# EAGLE library part 649012221732 (library Wurth_Elektronik_Electromechanic_Wire_to_Board_Connectors_rev15c)
WR-MPC4 4.20mm Male Dual Row Vertical Header with Mounting Pegs, 12 Pins=>Code : Con_WTB_MPC4_2_PCB_649012221732 <http://katalog.we-online.de/media/thumbs2/eican/thb_Con_WTB_MPC4_2_PCB_6490xx221732_pf2.jpg> Details see: http://katalog.we-online.de/en/em/649_0xx_221_732 Created 2014-06-06, Karrer Zheng 2014 (C) Würth Elektronik
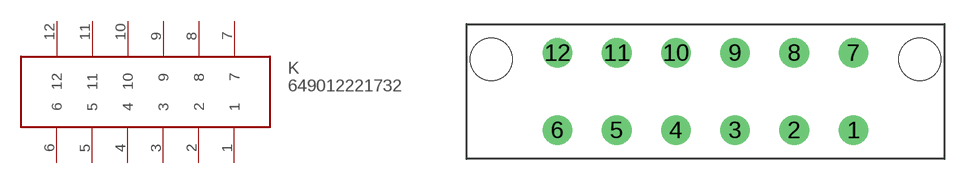
[diagram p292: symbol with the pads of 649012221732; footprint 649012221732]

Designator prefix K

## 649012221732  [649012221732]
1  1
2  2
3  3
4  4
5  5
6  6
7  7
8  8
9  9
10  10
11  11
12  12

## Footprint 649012221732 (pad centres in mm)
WR-MPC4 4.20mm Male Dual Row Vertical Header with Mounting Pegs, 12 Pins
drill 1.4: 1 0,-2.75; 2 -4.2,-2.75; 3 -8.4,-2.75; 4 -12.6,-2.75; 5 -16.8,-2.75; 6 -21,-2.75; 7 0,2.75; 8 -4.2,2.75; 9 -8.4,2.75; 10 -12.6,2.75; 11 -16.8,2.75; 12 -21,2.75
hole 3 at -25.7,2.29
hole 3 at 4.7,2.29